# Altium schematic symbol library SCH-MCU-WCH-CH577F-QFN20-4X4.SchLib: 1 symbol
Pins are listed as number, name and electrical type; pins without a type are passive.

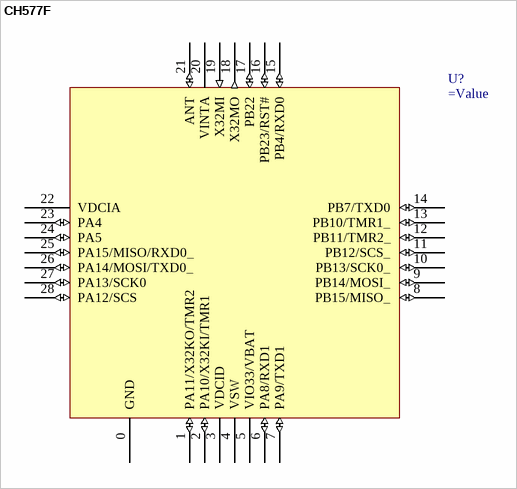
[diagram p0: symbol CH577F]

## CH577F
designator U?
pins: 0 GND (power), 1 PA11/X32KO/TMR2 (io), 2 PA10/X32KI/TMR1 (io), 3 VDCID (power), 4 VSW (power), 5 VIO33/VBAT (power), 6 PA8/RXD1 (io), 7 PA9/TXD1 (io), 8 PB15/MISO_ (io), 9 PB14/MOSI_ (io), 10 PB13/SCK0_ (io), 11 PB12/SCS_ (io), 12 PB11/TMR2_ (io), 13 PB10/TMR1_ (io), 14 PB7/TXD0 (io), 15 PB4/RXD0 (io), 16 PB23/RST# (io), 17 PB22 (io), 18 X32MO (out), 19 X32MI (in), 20 VINTA (power), 21 ANT (io), 22 VDCIA (power), 23 PA4 (io), 24 PA5 (io), 25 PA15/MISO/RXD0_ (io), 26 PA14/MOSI/TXD0_ (io), 27 PA13/SCK0 (io), 28 PA12/SCS (io)